# EAGLE library part SSM2212 (library dan)
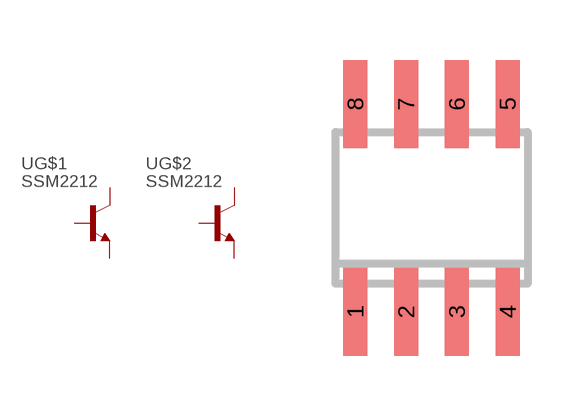
[diagram p10: symbol with the pads of SO08; footprint SO08]

Designator prefix -; gates G$1=NPN G$2=NPN

## SSM2212SOIC  [SO08]
1  G$1:C  pas
2  G$1:B  pas
3  G$1:E  pas
6  G$2:E  pas
7  G$2:B  pas
8  G$2:C  pas

## Footprint SO08 (pad centres in mm)
Small Outline Package 8 NS Package M08A
smd 0.6 x 2.2: 1 -1.905,-2.6; 2 -0.635,-2.6; 3 0.635,-2.6; 4 1.905,-2.6; 5 1.905,2.6; 6 0.635,2.6; 7 -0.635,2.6; 8 -1.905,2.6